# EAGLE library part MCT6X (library mct6x)
SIEMENS OPTO COUPLER
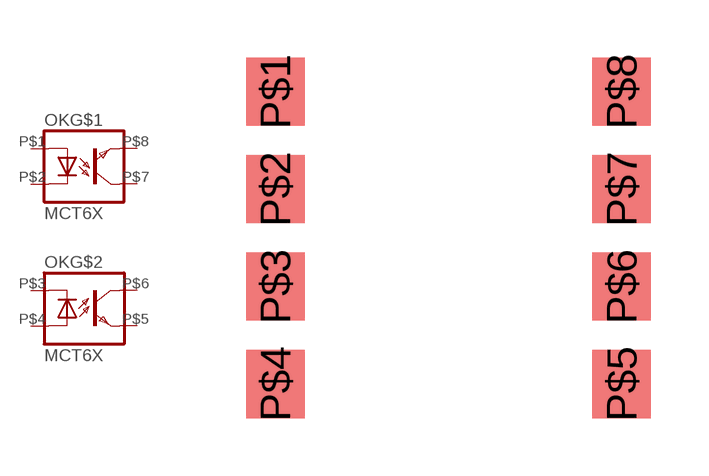
[diagram p0: symbol with the pads of SMT; footprint SMT]

Designator prefix OK; gates G$1=MCT6X-1 G$2=MCT6X-2

## MCT6XS  [SMT]
P$1  G$1:A  pas
P$2  G$1:C  pas
P$3  G$2:C  pas
P$4  G$2:A  pas
P$5  G$2:EMIT  pas
P$6  G$2:COL  pas
P$7  G$1:COL  pas
P$8  G$1:EMIT  pas

## Footprint SMT (pad centres in mm)
Small Outline Wide Plastic Gull Wing 300-mil body, package type SO
smd 1.524 x 1.778: P$1 0,7.62; P$2 0,5.08; P$3 0,2.54; P$4 0,0; P$5 9.017,0; P$6 9.017,2.54; P$7 9.017,5.08; P$8 9.017,7.62